# Altium schematic symbol library MC9S08JM16CLC.SchLib: 1 symbol
Pins are listed as number, name and electrical type; pins without a type are passive.

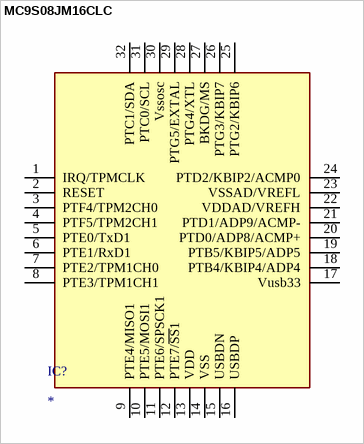
[diagram p0: symbol MC9S08JM16CLC]

## MC9S08JM16CLC
designator IC?
Integrated Circuit; Manufacturer_Name: NXP; Manufacturer_Part_Number: MC9S08JM16CLC; Datasheet Link: https://www.mouser.es/datasheet/2/302/MC9S08JM16-1126671.pdf; Height: 1.4mm; Mouser Part Number: 841-MC9S08JM16CLC; Mouser Price/Stock: https://www.mouser.es/ProductDetail/NXP-Semiconductors/MC9S08JM16CLC?qs=%2Fha2pyFadugHmtjFUQ1ceBu5ErDNKRFf%2FcN7n7eS5XTy0FvFM6TQ1w%3D%3D
footprint LQFP-32
pins: 1 IRQ/TPMCLK, 2 RESET, 3 PTF4/TPM2CH0, 4 PTF5/TPM2CH1, 5 PTE0/TxD1, 6 PTE1/RxD1, 7 PTE2/TPM1CH0, 8 PTE3/TPM1CH1, 9 PTE4/MISO1, 10 PTE5/MOSI1, 11 PTE6/SPSCK1, 12 PTE7/~{SS}1, 13 VDD, 14 VSS, 15 USBDN, 16 USBDP, 17 Vusb33, 18 PTB4/KBIP4/ADP4, 19 PTB5/KBIP5/ADP5, 20 PTD0/ADP8/ACMP+, 21 PTD1/ADP9/ACMP-, 22 VDDAD/VREFH, 23 VSSAD/VREFL, 24 PTD2/KBIP2/ACMP0, 25 PTG2/KBIP6, 26 PTG3/KBIP7, 27 BKDG/MS, 28 PTG4/XTL, 29 PTG5/EXTAL, 30 Vssosc, 31 PTC0/SCL, 32 PTC1/SDA